# EAGLE library part AQM0802A-RN-GBW (library densikit)
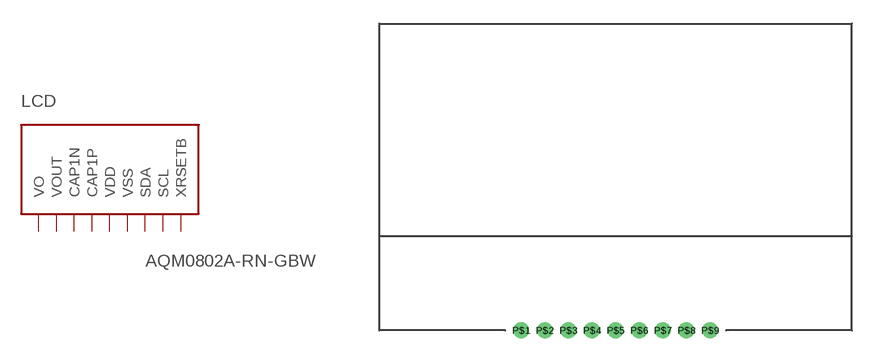
[diagram p11: symbol with the pads of AQM0802; footprint AQM0802]

Designator prefix LCD

## AQM0802A-RN-GBW  [AQM0802]
P$1  VO
P$2  VOUT
P$3  CAP1N
P$4  CAP1P
P$5  VDD
P$6  VSS
P$7  SDA
P$8  SCL
P$9  XRSETB

## Footprint AQM0802 (pad centres in mm)
AQM0802 8x2(I2C)
drill 0.5: P$1 9,0; P$2 10.5,0; P$3 12,0; P$4 13.5,0; P$5 15,0; P$6 16.5,0; P$7 18,0; P$8 19.5,0; P$9 21,0